# Altium footprint library Footprints.PcbLib: 18 footprints (part 2 of 2)
Each footprint in its own frame and in the unit in brackets; x right, y up, seen from the top. Pads: shape width x height; smd on the part's side, far side on the other; paste and mask are expansions set on the pad; w line width, h text height; cw(c..) or ccw(c..) is an arc to the next point about the centre after c.
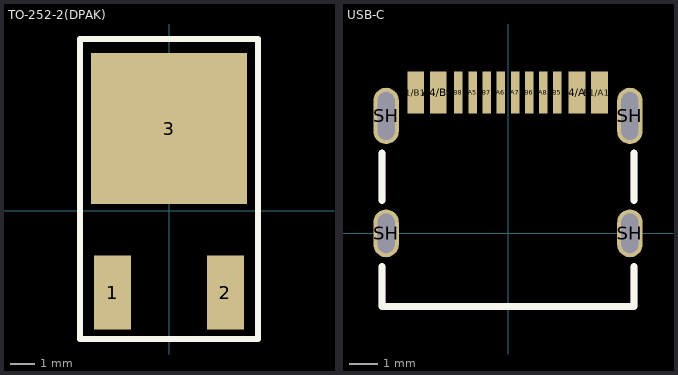
[diagram p1: the footprints below, top view; thin cyan lines are the x and y axes]

## TO-252-2(DPAK) [mm]
pads (3):
  rect 1.5x3 smd: 1(-2.286,-3.325) 2(2.286,-3.325)
  rect 6.3x6.1 smd: 3(0,3.325)
Top Overlay:
  lines w0.25: -3.6,-5.2 -3.6,6.95 3.6,6.95 3.6,-5.2 -3.6,-5.2
Mechanical 29:
  lines w0.25: -3.6,-5.2 -3.6,6.95 3.6,6.95 3.6,-5.2 -3.6,-5.2
  text ".Designator" at -4.998,-0.133 h1
3D body "TO-252-2(DPAK)-STM-3V3-LDO.STEP": height 2.4, standoff 0, extent -3.25,-4.162 3.25,5.563

## USB-C [mm]
height 3.26
pads (16):
  rect 0.6x1.5 smd: A1/B12(-3.275,5) A4/B9(-2.475,5) B1/A12(3.25,5) B4/A9(2.45,5)
  rect 0.3x1.5 smd: A5(-1.25,5) A6(-0.25,5) A7(0.25,5) A8(1.25,5) B5(1.75,5) B6(0.75,5) B7(-0.75,5) B8(-1.763,5)
  oval 0.9x1.7 hole 0.6 slot 1.4 at 90 deg: SH(-4.325,0) SH(4.325,0)
  oval 0.9x2 hole 0.6 slot 1.7 at 90 deg: SH(-4.325,4.17) SH(4.325,4.17)
Top Overlay:
  lines w0.25: -4.47,-1.17 -4.47,-2.6 4.47,-2.6 4.47,-1.17 ; -4.47,1.17 -4.47,2.85 ; 4.47,1.17 4.47,2.85
Mechanical 29:
  lines w0.25: -4.475,-1.17 -4.475,-2.6 4.465,-2.6 4.465,-1.17 ; -4.475,1.17 -4.475,2.85 ; 4.465,1.17 4.465,2.85
  text ".Designator" at -4.998,-0.333 h1
3D body "TYPE-C-16P-Female.STEP": height 3.31, standoff -0.99, extent -4.47,-2.6 4.47,5.305